# EAGLE library part RFM02 (library n39)
RFM02
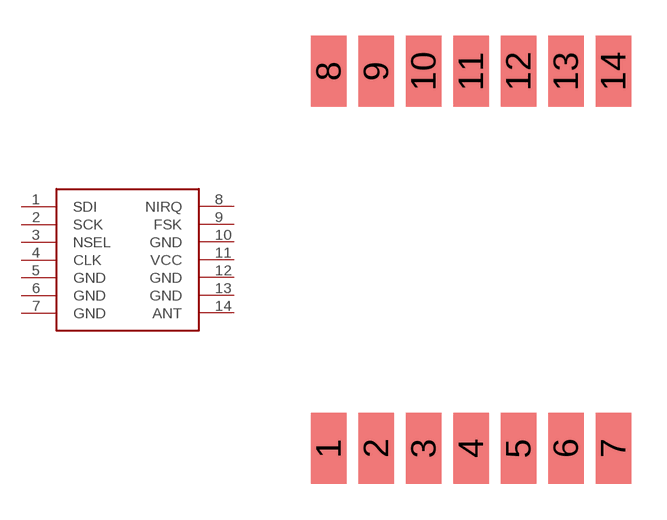
[diagram p0: symbol with the pads of RFM; footprint RFM]

Designator prefix IC

## RFM02  [RFM]
1  SDI
2  SCK
3  NSEL
4  CLK
5  GND
6  GND
7  GND
8  NIRQ
9  FSK
10  GND
11  VCC
12  GND
13  GND
14  ANT

## Footprint RFM (pad centres in mm)
RFM
smd 1.5 x 3: 1 0,0; 2 2,0; 3 4,0; 4 6,0; 5 8,0; 6 10,0; 7 12,0; 8 0,15.9; 9 2,15.9; 10 4,15.9; 11 6,15.9; 12 8,15.9; 13 10,15.9; 14 12,15.9